# EAGLE library part 74175 (library be_logic)
edited: Mario Blunk / Blunk electronic
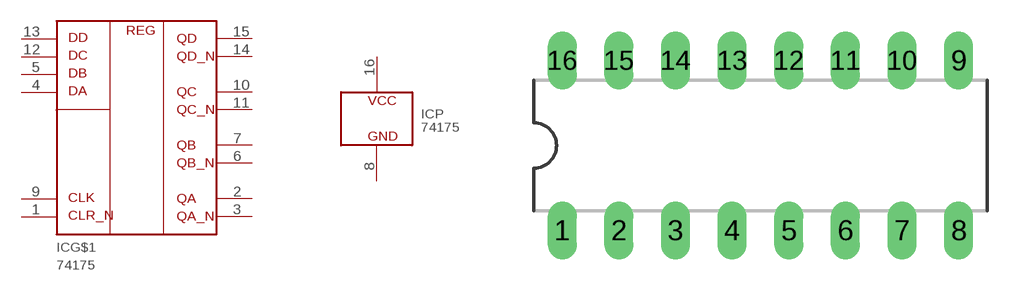
[diagram p6: symbol with the pads of T_NDIP16; footprint T_NDIP16]

Designator prefix IC; gates G$1=74175 P=PWR

## 74175N (BOM: YES; COMMISSIONED: 2018-09-16; PART_CODE_BEL: IC_PAC_NDIP16_VAL_x74x175N)  [T_NDIP16]
1  G$1:CLR_N  in
2  G$1:QA  out
3  G$1:QA_N  out
4  G$1:DA  in
5  G$1:DB  in
6  G$1:QB_N  out
7  G$1:QB  out
8  P:GND  pwr
9  G$1:CLK  in
10  G$1:QC  out
11  G$1:QC_N  out
12  G$1:DC  in
13  G$1:DD  in
14  G$1:QD_N  out
15  G$1:QD  out
16  P:VCC  pwr

## Footprint T_NDIP16 (pad centres in mm)
edited: Mario Blunk / Blunk electronic date: 2015-05-19
drill 0.8 long: 1 -8.89,-3.81; 2 -6.35,-3.81; 3 -3.81,-3.81; 4 -1.27,-3.81; 5 1.27,-3.81; 6 3.81,-3.81; 7 6.35,-3.81; 8 8.89,-3.81; 9 8.89,3.81; 10 6.35,3.81; 11 3.81,3.81; 12 1.27,3.81; 13 -1.27,3.81; 14 -3.81,3.81; 15 -6.35,3.81; 16 -8.89,3.81